# Altium footprint library Horizontal Half Shielded Modular Jack.PcbLib: 2 footprints
Each footprint in its own frame and in the unit in brackets; x right, y up, seen from the top. Pads: shape width x height; smd on the part's side, far side on the other; paste and mask are expansions set on the pad; w line width, h text height; cw(c..) or ccw(c..) is an arc to the next point about the centre after c.
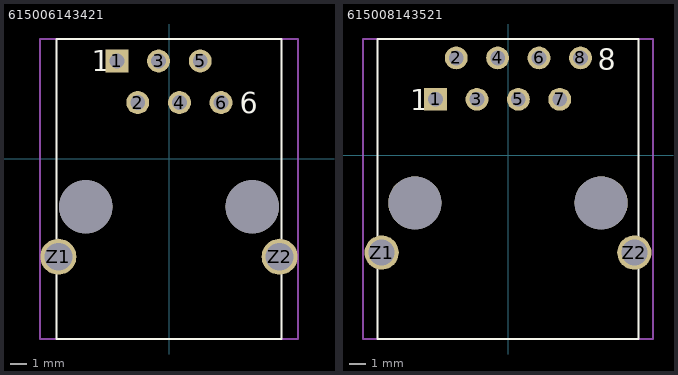
[diagram p0: the footprints below, top view; thin cyan lines are the x and y axes]

## 615006143421 [mm] "Horizontal Half-shielded 1x1 TH    6P6C Tab Down"
height 13.07
pads (10):
  rect 1.4x1.4 hole 0.9: 1(-3.175,5.97)
  round 1.4 hole 0.9: 2(-1.905,3.43) 3(-0.635,5.97) 4(0.635,3.43) 5(1.905,5.97) 6(3.175,3.43)
  round 2.2 hole 1.7: Z1(-6.75,-5.97) Z2(6.75,-5.97)
  round 3.25 hole 3.25 unplated: ""(-5.08,-2.92) ""(5.08,-2.92)
Top Overlay:
  lines w0.127: -6.85,-10.99 6.85,-10.99 6.85,7.31 -6.85,7.31 -6.85,-10.99
  text "1" at -4.699,5.334 h1.27
  text "6" at 4.318,2.794 h1.27
Mechanical 15:
  lines w0.127: -7.875,-10.99 7.875,-10.99 7.875,7.31 -7.875,7.31 -7.875,-10.99
3D body: height 13.08, standoff -4.12, extent -7.875,-10.99 7.875,7.31

## 615008143521 [mm] "Horizontal Half-shielded 1x1 TH    8P8C Tab Down"
height 13.1
pads (12):
  rect 1.4x1.4 hole 0.9: 1(-4.445,3.43)
  round 1.4 hole 0.9: 2(-3.175,5.97) 3(-1.905,3.43) 4(-0.635,5.97) 5(0.635,3.43) 6(1.905,5.97) 7(3.175,3.43) 8(4.445,5.97)
  round 2.1 hole 1.6: Z1(-7.75,-5.97) Z2(7.75,-5.97)
  round 3.25 hole 3.25 unplated: ""(-5.715,-2.92) ""(5.715,-2.92)
Top Overlay:
  lines w0.127: -8,-11.27 -8,7.13 8,7.13 8,-11.27 -8,-11.27
  text "8" at 5.5,5.25 h1.27
  text "1" at -6,2.75 h1.27
Mechanical 15:
  lines w0.127: -8.9,-11.27 -8.9,7.13 8.9,7.13 8.9,-11.27 -8.9,-11.27
3D body: height 13.11, standoff -4.12, extent -8.9,-11.27 8.9,7.13